# Altium footprint library WE-AGDT.PcbLib: 1 footprints
Each footprint in its own frame and in the unit in brackets; x right, y up, seen from the top. Pads: shape width x height; smd on the part's side, far side on the other; paste and mask are expansions set on the pad; w line width, h text height; cw(c..) or ccw(c..) is an arc to the next point about the centre after c.
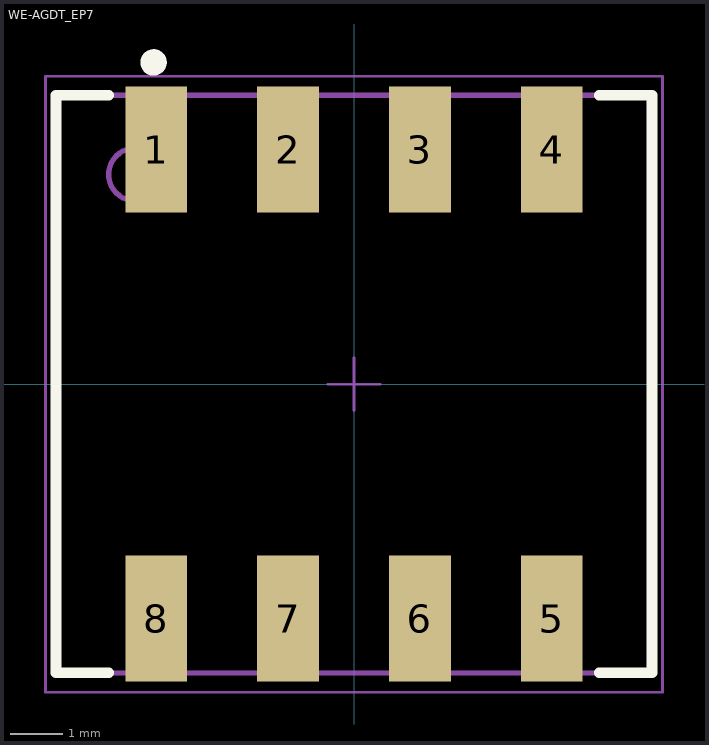
[diagram p0: the footprint, top view; thin cyan lines are the x and y axes]

## WE-AGDT_EP7 [mm] "Auxiliary Gate Drive Transformer, EP7 SMT, body 11.3x10.95mm"
height 11.94
pads (8):
  rect 1.17x2.39 smd: 1(-3.75,4.445) 2(-1.25,4.445) 3(1.25,4.445) 4(3.75,4.445) 5(3.75,-4.445) 6(1.25,-4.445) 7(-1.25,-4.445) 8(-3.75,-4.445)
Top Overlay:
  circle w0.25: c-3.8,6.1 r0.125
  lines w0.2: -4.65,-5.475 -5.65,-5.475 -5.65,5.475 -4.65,5.475 ; 4.65,-5.475 5.65,-5.475 5.65,5.475 4.65,5.475
Top Designator:
  text ".Designator" at -7.498,-0.5 h1.5
Top Component Outline:
  circle w0.1: c-4.15,3.975 r0.5
  lines w0.1: -5.65,-5.475 -5.65,5.475 5.65,5.475 5.65,-5.475 -5.65,-5.475
Top 3D Body:
  circle w0.1: c-4.15,3.975 r0.5
  lines w0.1: -5.65,-5.475 -5.65,5.475 5.65,5.475 5.65,-5.475 -5.65,-5.475
Top Courtyard:
  lines w0.05: -0.5,0 0.5,0 ; 0,-0.5 0,0.5 ; -5.85,-5.84 -5.85,5.84 5.85,5.84 5.85,-5.84 -5.85,-5.84
3D body "75031xxxx.stp": height 11.56, standoff 0, extent -5.55,-5.05 5.55,5.05